# Altium footprint library OLD_MainBoard.PcbLib: 27 footprints (part 1 of 2)
Each footprint in its own frame and in the unit in brackets; x right, y up, seen from the top. Pads: shape width x height; smd on the part's side, far side on the other; paste and mask are expansions set on the pad; w line width, h text height; cw(c..) or ccw(c..) is an arc to the next point about the centre after c.
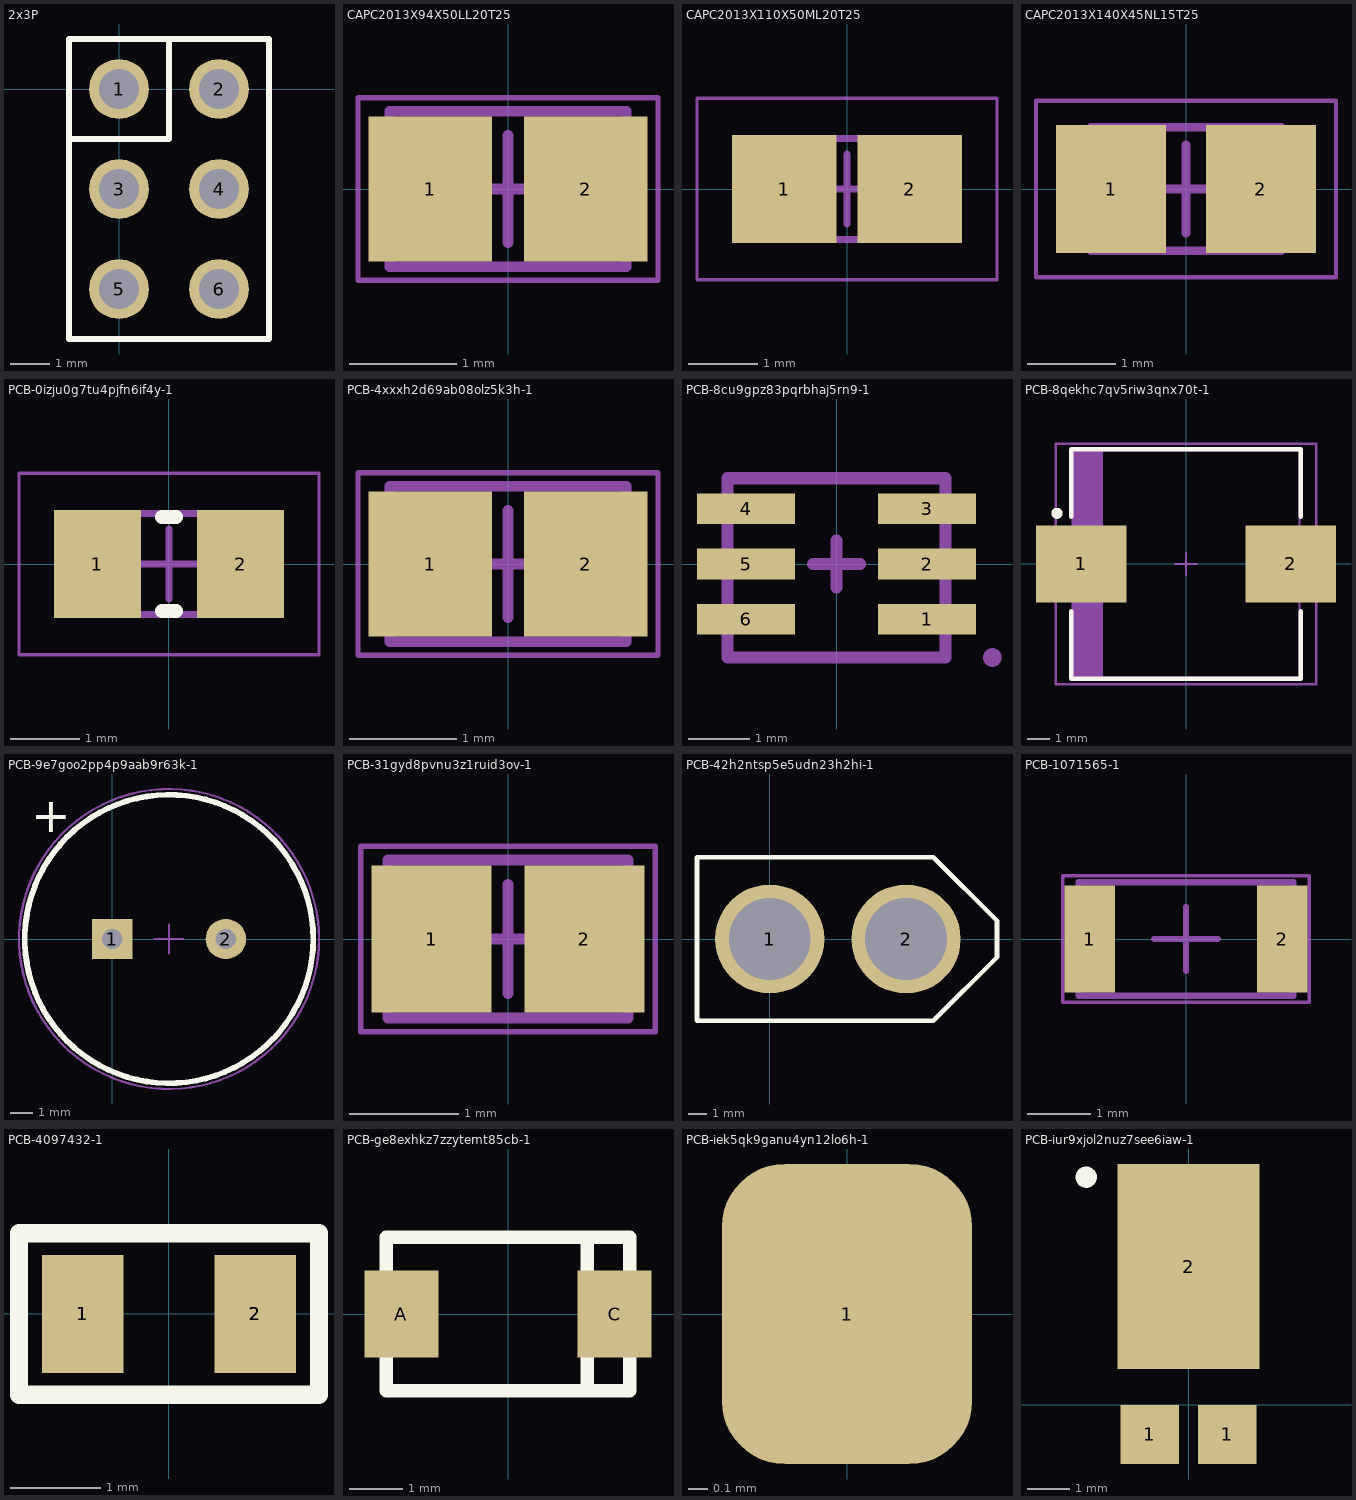
[diagram p0: the footprints below, top view; thin cyan lines are the x and y axes]

## 2x3P [mil] "2x3P"
pads (6):
  round 60 hole 40: 1(0,0) 2(100,0) 3(0,-100) 4(100,-100) 5(0,-200) 6(100,-200)
Top Overlay:
  lines w6: -50,-50 50,-50 50,50 ; -50,-250 150,-250 150,50 -50,50 -50,-250
3D body "c-0826632-03-o1-3d.stp": height 374.02, standoff -125.98, extent -48.43,-249.99 148.43,50.01

## CAPC2013X94X50LL20T25 [mm] "CAPC2013X94X50LL20T25"
height 0.94
pads (2):
  rect 1.15x1.35 smd: 1(-0.725,0) 2(0.725,0)
Mechanical 13:
  lines w0.1: -1.105,-0.725 1.105,-0.725 1.105,0.725 -1.105,0.725 -1.105,-0.725
Mechanical 15:
  lines w0.05: -1.4,-0.85 1.4,-0.85 1.4,0.85 -1.4,0.85 -1.4,-0.85
  lines w0.1: -0.5,0 0.5,0 ; 0,-0.5 0,0.5
3D body: height 0.94, standoff 0, extent 0.605,-0.725 1.105,0.725
3D body: height 0.94, standoff 0, extent -1.105,-0.725 -0.605,0.725
3D body: height 0.94, standoff 0, extent -0.605,-0.725 0.605,0.725

## CAPC2013X110X50ML20T25 [mm] "CAPC2013X110X50ML20T25"
height 1.1
pads (2):
  rect 1.5x1.55 smd: 1(-0.9,0) 2(0.9,0)
Mechanical 13:
  lines w0.1: -1.1,-0.725 1.1,-0.725 1.1,0.725 -1.1,0.725 -1.1,-0.725
Mechanical 15:
  lines w0.05: -2.15,-1.3 2.15,-1.3 2.15,1.3 -2.15,1.3 -2.15,-1.3
  lines w0.1: -0.5,0 0.5,0 ; 0,-0.5 0,0.5
3D body: height 1.1, standoff 0, extent 0.6,-0.725 1.1,0.725
3D body: height 1.1, standoff 0, extent -1.1,-0.725 -0.6,0.725
3D body: height 1.1, standoff 0, extent -0.6,-0.725 0.6,0.725

## CAPC2013X140X45NL15T25 [mm] "CAPC2013X140X45NL15T25"
height 1.4
pads (2):
  rect 1.25x1.45 smd: 1(-0.85,0) 2(0.85,0)
Mechanical 13:
  lines w0.1: -1.075,-0.7 1.075,-0.7 1.075,0.7 -1.075,0.7 -1.075,-0.7
Mechanical 15:
  lines w0.05: -1.7,-1 1.7,-1 1.7,1 -1.7,1 -1.7,-1
  lines w0.1: -0.5,0 0.5,0 ; 0,-0.5 0,0.5
3D body: height 1.4, standoff 0, extent 0.625,-0.7 1.075,0.7
3D body: height 1.4, standoff 0, extent -1.075,-0.7 -0.625,0.7
3D body: height 1.4, standoff 0, extent -0.625,-0.7 0.625,0.7

## PCB-0izju0g7tu4pjfn6if4y-1 [mm] "RESC2013X50X30ML20T20"
height 0.5
pads (2):
  rect 1.25x1.55 smd: 1(-1.025,0) 2(1.025,0)
Top Overlay:
  lines w0.2: -0.1,-0.675 0.1,-0.675 ; -0.1,0.675 0.1,0.675
Mechanical 13:
  lines w0.1: -1.1,-0.725 1.1,-0.725 1.1,0.725 -1.1,0.725 -1.1,-0.725
Mechanical 15:
  lines w0.05: -2.15,-1.3 2.15,-1.3 2.15,1.3 -2.15,1.3 -2.15,-1.3
  lines w0.1: -0.5,0 0.5,0 ; 0,-0.5 0,0.5
3D body: height 0.5, standoff 0, extent 0.8,-0.725 1.1,0.725
3D body: height 0.5, standoff 0, extent -1.1,-0.725 -0.8,0.725
3D body: height 0.5, standoff 0, extent -0.8,-0.725 0.8,0.725

## PCB-4xxxh2d69ab08olz5k3h-1 [mm] "CAPC2013X94X50LL20T25"
height 0.94
pads (2):
  rect 1.15x1.35 smd: 1(-0.725,0) 2(0.725,0)
Mechanical 13:
  lines w0.1: -1.105,-0.725 1.105,-0.725 1.105,0.725 -1.105,0.725 -1.105,-0.725
Mechanical 15:
  lines w0.05: -1.4,-0.85 1.4,-0.85 1.4,0.85 -1.4,0.85 -1.4,-0.85
  lines w0.1: -0.5,0 0.5,0 ; 0,-0.5 0,0.5
3D body: height 0.94, standoff 0, extent 0.605,-0.725 1.105,0.725
3D body: height 0.94, standoff 0, extent -1.105,-0.725 -0.605,0.725
3D body: height 0.94, standoff 0, extent -0.605,-0.725 0.605,0.725

## PCB-8cu9gpz83pqrbhaj5rn9-1 [mm]
pads (6):
  rect 1.6x0.5 smd: 1(1.475,-0.9) 2(1.475,0) 3(1.475,0.9) 4(-1.475,0.9) 5(-1.475,0) 6(-1.475,-0.9)
Mechanical 6:
  circle w0.152: c2.54,-1.524 r0.076
  lines w0.2: -0.381,0 0.381,0 ; 0,-0.381 0,0.381
Mechanical 15:
  lines w0.2: -1.778,-1.524 1.778,-1.524 1.778,1.397 -1.778,1.397 -1.778,-1.524
3D body "ASMT-YTB7-0AA02.STEP": height 1.77, standoff -0.03, extent -1.7,-1.4 1.7,1.4

## PCB-8qekhc7qv5riw3qnx70t-1 [mm] "SMD Inductor, 2-Leads, Body 11 x 10mm"
height 3.8
pads (2):
  rect 4.1x3.5 smd: 1(-4.75,0) 2(4.75,0)
Top Overlay:
  circle w0.25: c-5.85,2.3 r0.125
  lines w0.2: -5.2,-2.15 -5.2,-5.2 5.2,-5.2 5.2,-2.15 ; -5.2,2.15 -5.2,5.2 5.2,5.2 5.2,2.15
Mechanical 13:
  rectangle: -5.15,-5.15 -3.765,5.15
  lines w0.1: -5.15,-5.15 5.15,-5.15 5.15,5.15 -5.15,5.15 -5.15,-5.15
Mechanical 15:
  lines w0.1: -0.5,0 0.5,0 ; 0,-0.5 0,0.5 ; -5.9,-5.45 5.9,-5.45 5.9,5.45 -5.9,5.45 -5.9,-5.45
3D body "WE-LHMI_1040.stp": height 3.8, standoff 0, extent -5.5,-5 5.5,5

## PCB-9e7goo2pp4p9aab9r63k-1 [mil]
pads (2):
  rect 70x70 hole 35.43: 1(0,0)
  round 70 hole 35.43: 2(196.85,0)
Top Overlay:
  circle w10: c98.43,0 r250
  text "+" at -140,185 h60
Mechanical 15:
  circle w3.94: c98.43,0 r260
  lines w3.94: 73.43,0 123.43,0 ; 98.43,-25 98.43,25
3D body "User Library-Cap-EL(12_5x25-5).step": height 987.33, standoff -126.92, extent -147.63,-245.68 344.58,245.7

## PCB-31gyd8pvnu3z1ruid3ov-1 [mm] "CAPC2013X88X50LL20T25"
height 0.88
pads (2):
  rect 1.1x1.35 smd: 1(-0.7,0) 2(0.7,0)
Mechanical 13:
  lines w0.1: -1.1,-0.725 -1.1,0.725 1.1,0.725 1.1,-0.725 -1.1,-0.725
Mechanical 15:
  lines w0.05: -1.35,-0.85 -1.35,0.85 1.35,0.85 1.35,-0.85 -1.35,-0.85
  lines w0.1: -0.5,0 0.5,0 ; 0,-0.5 0,0.5
3D body: height 0.88, standoff 0, extent -0.6,-0.725 0.6,0.725
3D body: height 0.88, standoff 0, extent -1.1,-0.725 -0.6,0.725
3D body: height 0.88, standoff 0, extent 0.6,-0.725 1.1,0.725

## PCB-42h2ntsp5e5udn23h2hi-1 [mm]
pads (2):
  round 6 hole 4.5: 1(0,0) 2(7.5,0)
Top Overlay:
  lines w0.254: -4,-4.5 9,-4.5 12.5,-1 12.5,1 9,4.5 -4,4.5 -4,-4.5
3D body "xt60 Male.stp": height 16.4, standoff -5, extent -3.6,-4 12,4

## PCB-1071565-1 [mm]
pads (2):
  rect 0.8x1.7 smd: 1(-1.524,0) 2(1.524,0)
Mechanical 13:
  lines w0.1: -1.7,-0.9 1.7,-0.9 1.7,0.9 -1.7,0.9 -1.7,-0.9
Mechanical 15:
  lines w0.05: -1.95,-1 1.95,-1 1.95,1 -1.95,1 -1.95,-1
  lines w0.1: -0.5,0 0.5,0 ; 0,-0.5 0,0.5
3D body: height 1.27, standoff 0, extent 1.2,-0.9 1.7,0.9
3D body: height 1.27, standoff 0, extent -1.7,-0.9 -1.2,0.9
3D body: height 1.27, standoff 0, extent -1.2,-0.9 1.2,0.9

## PCB-4097432-1 [mm] "0805 MLCC"
pads (4):
  rect 0.9x1.3 smd: 1(-0.95,0) 1(-0.95,0) 2(0.95,0) 2(0.95,0)
Top Overlay:
  lines w0.2: -1.651,-0.889 -1.651,0.889 1.651,0.889 1.651,-0.889 -1.651,-0.889
3D body "0803_CAP_0.1uf.STEP": height 0.87, standoff -0.01, extent -1,-0.622 1,0.622

## PCB-ge8exhkz7zzytemt85cb-1 [mm]
pads (2):
  rect 1.4x1.64 smd: A(-2.015,0) C(2.015,0)
Top Overlay:
  lines w0.254: 1.5,-1.45 1.5,1.45 ; -2.3,-1.45 2.3,-1.45 2.3,1.45 -2.3,1.45 -2.3,-1.45
3D body: height 2.45, standoff 0.2, extent -2.3,-1.45 2.3,1.45

## PCB-iek5qk9ganu4yn12lo6h-1 [mil]
pads (1):
  rrect50% 50x60 smd: 1(0,0)
3D body: height 57.09, standoff 0, extent -19.68,-39.37 19.68,39.37

## PCB-iur9xjol2nuz7see6iaw-1 [mm]
pads (3):
  rect 1.39x1.4 smd: 1(-0.92,-0.7) 1(0.92,-0.7)
  rect 3.36x4.86 smd: 2(0,3.282)
Top Overlay:
  circle w0.254: c-2.425,5.4 r0.125
3D body: height 1.15, standoff 0.1, extent -2,-0.75 2,4.875